# EAGLE library part MX25 (library X893)
http://www.macronix.com/QuickPlace/hq/PageLibrary4825740B00298A3B.nsf/h_Index/3F21BAC2E121E17848257639003A3146/$File/MX25L3206E,%203V,%2032Mb,%20v1.4.pdf
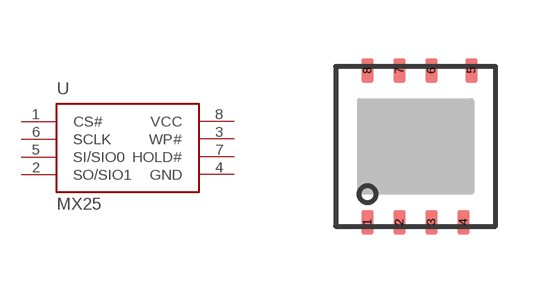
[diagram p198: symbol with the pads of USON-8L; footprint USON-8L]

Designator prefix U

## MX25L3206E  [USON-8L]
1  CS#  in
2  SO/SIO1
3  WP#  in
4  GND  pwr
5  SI/SIO0
6  SCLK  in
7  HOLD#  in
8  VCC  pwr

## Footprint USON-8L (pad centres in mm)
smd 0.3 x 0.6: 1 -1.2,-1.9; 2 -0.4,-1.9; 3 0.4,-1.9; 4 1.2,-1.9; 5 1.4,1.9; 6 0.4,1.9; 7 -0.4,1.9; 8 -1.2,1.9